# Altium footprint library XAL7030-222MEB.PcbLib: 2 footprints
Each footprint in its own frame and in the unit in brackets; x right, y up, seen from the top. Pads: shape width x height; smd on the part's side, far side on the other; paste and mask are expansions set on the pad; w line width, h text height; cw(c..) or ccw(c..) is an arc to the next point about the centre after c.
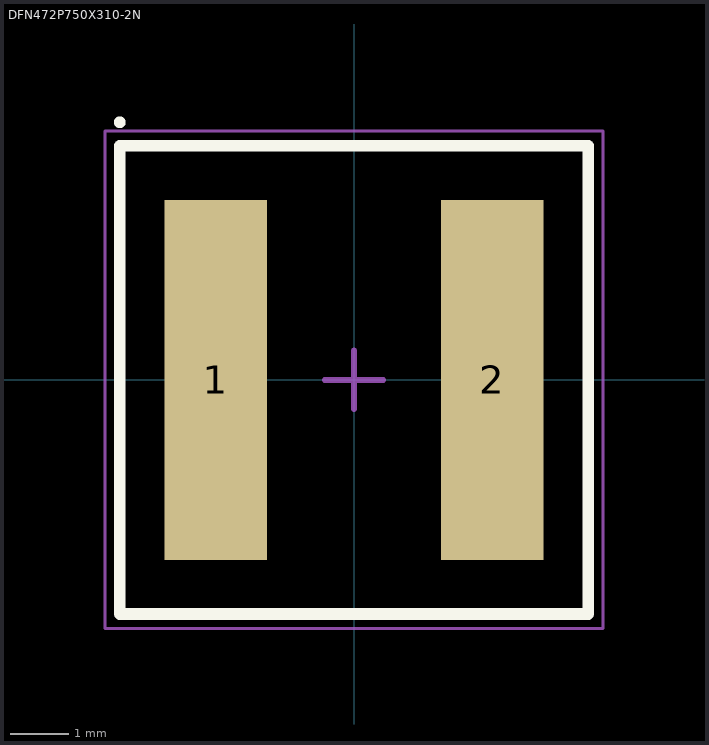
[diagram p0: the footprints below, top view; thin cyan lines are the x and y axes]

## DFN472P750X310-2N [mm] "DFN, 2-Leads, Body 7.50x7.50mm, Pitch 4.72mm, IPC Medium Density"
height 3.1
pads (2):
  rect 1.75x6.15 smd: 1(-2.36,0) 2(2.36,0)
Top Overlay:
  circle w0.1: c-4,4.4 r0.05
  lines w0.2: -4,-4 -4,4 4,4 4,-4 -4,-4
Mechanical 13:
  lines w0.1: -4,-4 4,-4 4,4 -4,4 -4,-4
Mechanical 15:
  lines w0.05: -4.25,-4.25 4.25,-4.25 4.25,4.25 -4.25,4.25 -4.25,-4.25
  lines w0.1: -0.5,0 0.5,0 ; 0,-0.5 0,0.5
3D body "DFN472P750X310-2N.step": height 3.1, standoff 0, extent -4,-4 4,4

## XAL7030-222MEB [mm]